# Altium schematic symbol library Schlib1_Transformer.SchLib: 1 symbol
Pins are listed as number, name and electrical type; pins without a type are passive.

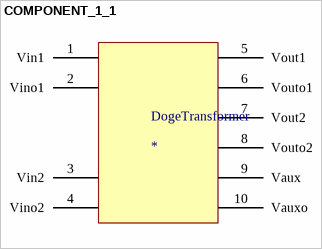
[diagram p0: symbol COMPONENT_1_1]

## COMPONENT_1_1
designator DogeTransformer
Doge
footprint transformer
pins: 1 Vin1, 2 Vino1, 3 Vin2, 4 Vino2, 5 Vout1, 6 Vouto1, 7 Vout2, 8 Vouto2, 9 Vaux, 10 Vauxo